# EAGLE library part INA233 (library PersonalLibrary)
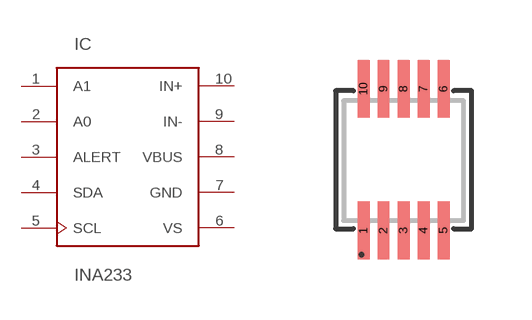
[diagram p0: symbol with the pads of VSSOP10; footprint VSSOP10]

Designator prefix IC

## INA233  [VSSOP10]
1  A1  in
2  A0  in
3  ALERT  out
4  SDA
5  SCL  in
6  VS  pwr
7  GND  pwr
8  VBUS  in
9  IN-  in
10  IN+  in

## Footprint VSSOP10 (pad centres in mm)
smd 0.3 x 1.45: 1 0.5,0.75; 2 1,0.75; 3 1.5,0.75; 4 2,0.75; 5 2.5,0.75; 6 2.5,4.3; 7 2,4.3; 8 1.5,4.3; 9 1,4.3; 10 0.5,4.3